# EAGLE library part 7490100143 (library Wurth Electronics Midcom Inc V1-0)
Package Style: 100BT 1 Port ETR Mounting: SMD Pins: 16 pins Header: 250-0512 Windings Primary: Aux: Secondary: Best pinouts for production vary per application. Please contact Wurth Electronics Midcom, Inc. for assistance with your custom design. Datasheet: 7490100143 <http://www.we-online.com/web/en/index.php/show/media/06_passive_components_-_custom_magnetics/pdf_doc_files/spec_sheets/7490/7490100143.pdf> Website: Wurth Electronics Midcom <http://www.we-online.com/midcom> Contact us Wurth Electronics Midcom, Inc. 121 Airport Dr. Watertown, SD 57201 Phone: (605) 886-4385 Fax: (605) 886-4486 E-Mail: midcom@we-online.com
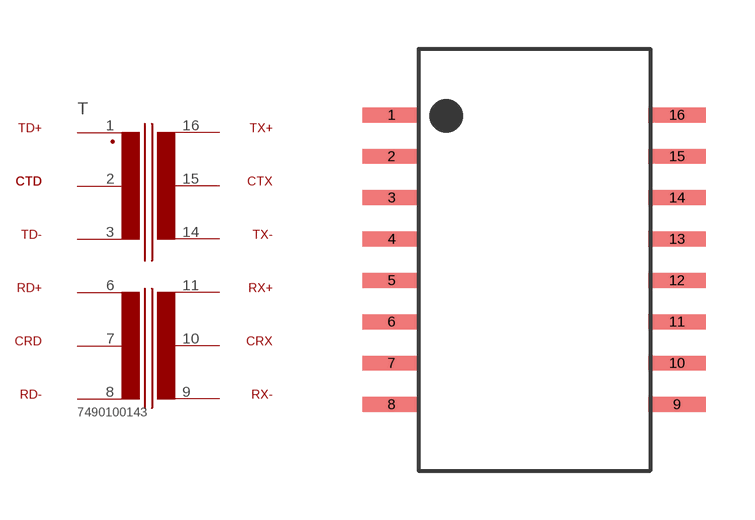
[diagram p92: symbol with the pads of 7490100143; footprint 7490100143]

Designator prefix T

## 7490100143  [7490100143]
1  1  pas
2  2  pas
3  3  pas
6  4  pas
7  5  pas
8  6  pas
9  12  pas
10  11  pas
11  10  pas
14  9  pas
15  8  pas
16  7  pas

## Footprint 7490100143 (pad centres in mm)
Package Style: 100BT 1 Port ETR Mounting: SMD Pins: 16
smd 1.778 x 0.457: 1 -4.381,4.445; 2 -4.381,3.175; 3 -4.381,1.905; 4 -4.381,0.635; 5 -4.381,-0.635; 6 -4.381,-1.905; 7 -4.381,-3.175; 8 -4.381,-4.445; 9 4.381,-4.445; 10 4.381,-3.175; 11 4.381,-1.905; 12 4.381,-0.635; 13 4.381,0.635; 14 4.381,1.905; 15 4.381,3.175; 16 4.381,4.445